# Altium footprint library Supernova DF13.PcbLib: 47 footprints (part 3 of 3)
Each footprint in its own frame and in the unit in brackets; x right, y up, seen from the top. Pads: shape width x height; smd on the part's side, far side on the other; paste and mask are expansions set on the pad; w line width, h text height; cw(c..) or ccw(c..) is an arc to the next point about the centre after c.
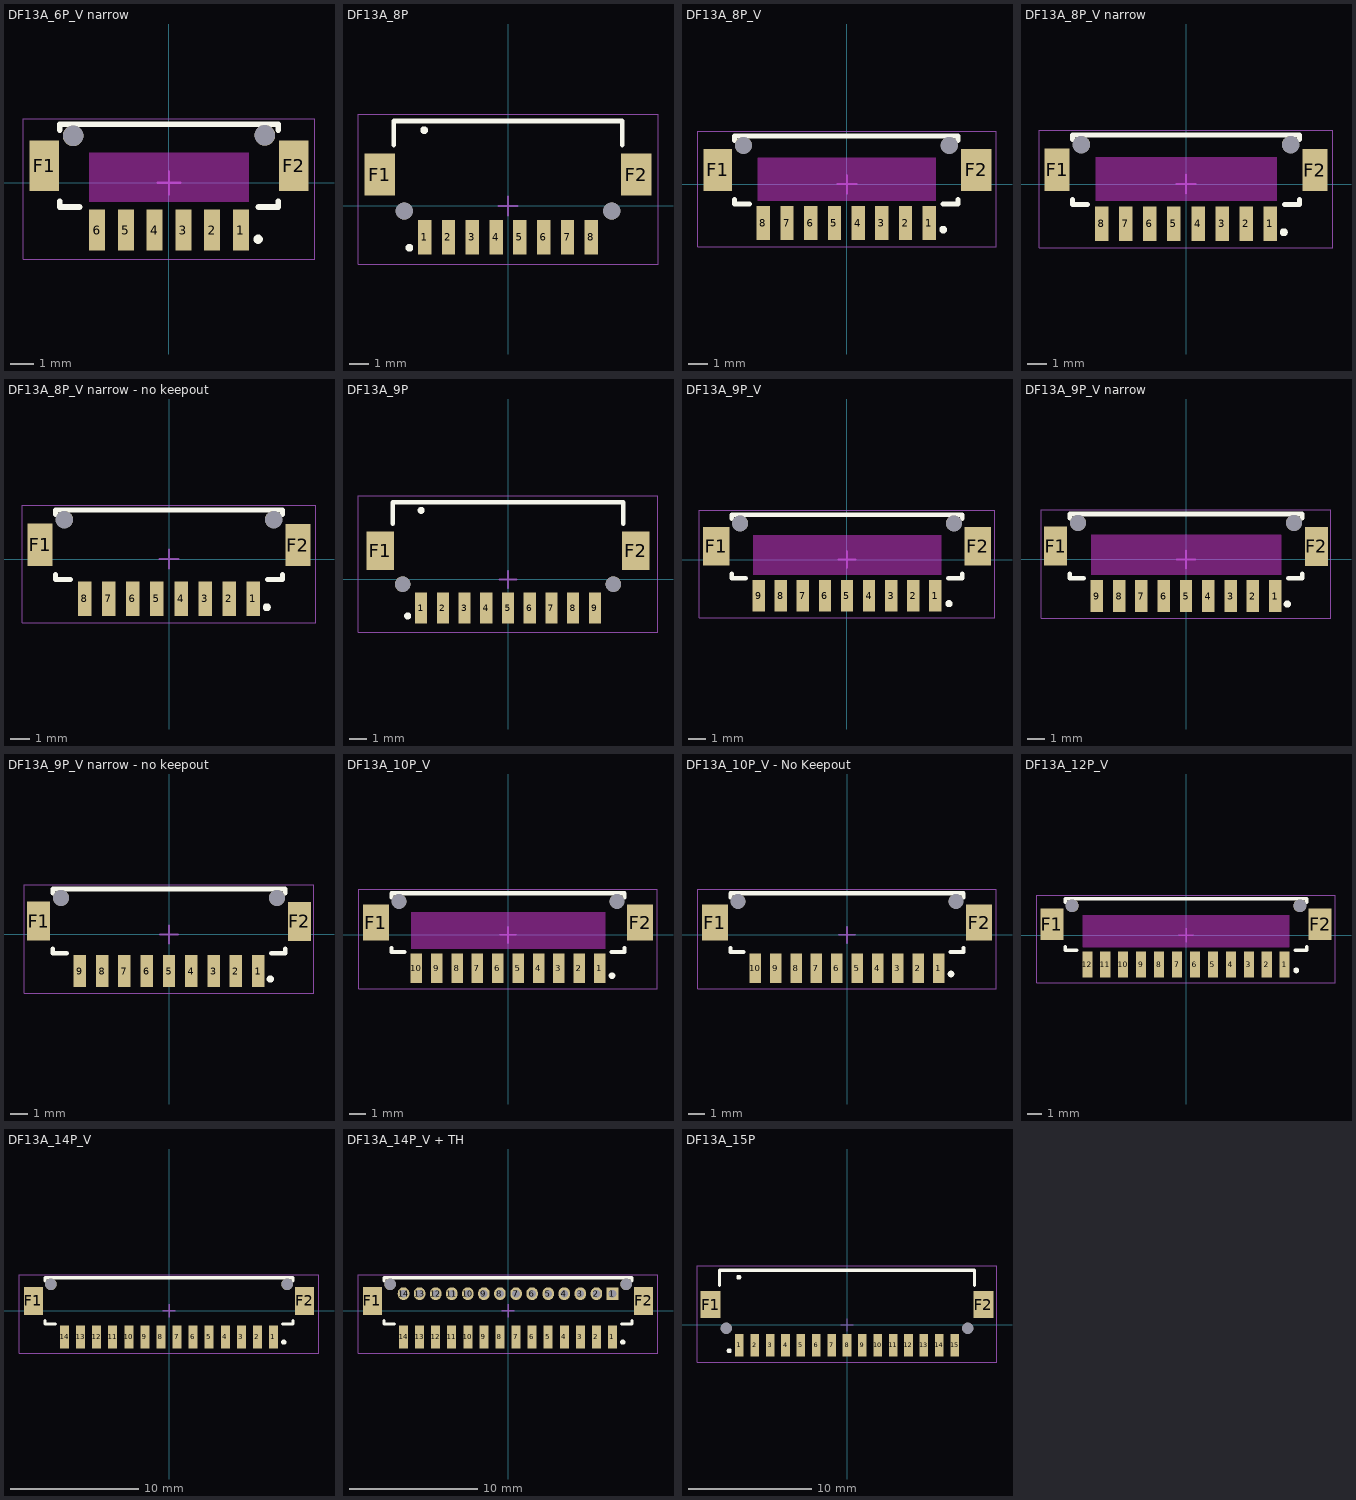
[diagram p2: the footprints below, top view; thin cyan lines are the x and y axes]

## DF13A_6P_V narrow [mm]
height 4
pads (10):
  rect 0.7x1.8 smd: 1(3.125,-2.06) 2(1.875,-2.06) 3(0.625,-2.06) 4(-0.625,-2.06) 5(-1.875,-2.06) 6(-3.125,-2.06)
  rect 1.3x2.2 smd mask+0: F1(-5.425,0.74) F2(5.425,0.74)
  round 0.9 hole 0.9 unplated paste+0 mask+0: ""(-4.17,2.04) ""(4.17,2.06)
Top Layer keep-out:
  rectangle: -3.475,-0.835 3.475,1.31
Top Overlay:
  circle w0.203: c3.878,-2.46 r0.102
  lines w0.254: -4.75,-0.81 -4.75,-1.06 -3.9,-1.06 ; -4.75,2.29 -4.75,2.54 4.75,2.54 4.75,2.29 ; 3.9,-1.06 4.75,-1.06 4.75,-0.81
Top Courtyard:
  lines w0.05: -6.35,-3.324 6.35,-3.324 6.35,2.772 -6.35,2.772 -6.35,-3.324
  lines w0.1: -0.5,0 0.5,0 ; 0,-0.5 0,0.5
3D body "DF13-6P-1.25V2.STEP": height 4.82, standoff -0.78, extent -6.075,-2.46 6.075,2.44

## DF13A_8P [mm]
height 4
pads (12):
  rect 0.7x1.8 smd: 1(-4.375,-1.65) 2(-3.125,-1.65) 3(-1.875,-1.65) 4(-0.625,-1.65) 5(0.625,-1.65) 6(1.875,-1.65) 7(3.125,-1.65) 8(4.375,-1.65)
  rect 1.6x2.2 smd: F1(-6.725,1.65) F2(6.725,1.65)
  round 0.9 hole 0.9 unplated paste+0 mask+0: ""(-5.445,-0.27) ""(5.445,-0.27)
Top Overlay:
  circle w0.203: c-4.4,3.978 r0.102
  circle w0.203: c-5.178,-2.2 r0.102
  lines w0.254: -6,3.2 -6,4.45 6,4.45 6,3.2
Top Courtyard:
  lines w0.05: -7.874,-3.048 7.874,-3.048 7.874,4.826 -7.874,4.826 -7.874,-3.048
  lines w0.1: -0.5,0 0.5,0 ; 0,-0.5 0,0.5
3D body "DF13-8P-1.25H.stp": height 3.58, standoff -0.82, extent -7.3,-2.15 7.35,4.35

## DF13A_8P_V [mm]
height 4
pads (12):
  rect 0.7x1.8 smd: 1(4.338,-2.05) 2(3.088,-2.05) 3(1.838,-2.05) 4(0.588,-2.05) 5(-0.662,-2.05) 6(-1.912,-2.05) 7(-3.162,-2.05) 8(-4.412,-2.05)
  rect 1.5x2.2 smd mask+0: F1(-6.812,0.75)
  rect 1.6x2.2 smd mask+0: F2(6.813,0.75)
  round 0.9 hole 0.9 unplated paste+0 mask+0: ""(-5.467,2.05) ""(5.393,2.05)
Top Layer keep-out:
  rectangle: -4.722,-0.874 4.688,1.396
Top Overlay:
  circle w0.203: c5.078,-2.4 r0.102
  lines w0.254: -5.937,-0.8 -5.937,-1.05 -5.137,-1.05 ; -5.937,2.3 -5.937,2.55 5.863,2.55 5.863,2.3 ; 5.063,-1.05 5.863,-1.05 5.863,-0.8
Top Courtyard:
  lines w0.05: -7.874,-3.302 7.874,-3.302 7.874,2.794 -7.874,2.794 -7.874,-3.302
  lines w0.1: -0.5,0 0.5,0 ; 0,-0.5 0,0.5
3D body "DF13-8P-1.25V.stp": height 4.79, standoff -0.81, extent -7.364,-2.45 7.286,2.45

## DF13A_8P_V narrow [mm]
height 4
pads (12):
  rect 0.7x1.8 smd: 1(4.375,-2.05) 2(3.125,-2.05) 3(1.875,-2.05) 4(0.625,-2.05) 5(-0.625,-2.05) 6(-1.875,-2.05) 7(-3.125,-2.05) 8(-4.375,-2.05)
  rect 1.3x2.2 smd mask+0: F1(-6.685,0.75) F2(6.685,0.73)
  round 0.9 hole 0.9 unplated paste+0 mask+0: ""(-5.43,2.05) ""(5.43,2.05)
Top Layer keep-out:
  rectangle: -4.684,-0.874 4.725,1.396
Top Overlay:
  circle w0.203: c5.078,-2.5 r0.102
  lines w0.254: -5.9,-0.8 -5.9,-1.05 -5.1,-1.05 ; -5.9,2.3 -5.9,2.55 5.9,2.55 5.9,2.3 ; 5.1,-1.05 5.9,-1.05 5.9,-0.8
Top Courtyard:
  lines w0.05: -7.62,-3.302 -7.62,2.794 7.62,2.794 7.62,-3.302 -7.62,-3.302
  lines w0.1: -0.5,0 0.5,0 ; 0,-0.5 0,0.5
3D body "DF13-8P-1.25V.stp": height 4.79, standoff -0.81, extent -7.326,-2.45 7.324,2.45

## DF13A_8P_V narrow - no keepout [mm]
height 4
pads (12):
  rect 0.7x1.8 smd: 1(4.375,-2.05) 2(3.125,-2.05) 3(1.875,-2.05) 4(0.625,-2.05) 5(-0.625,-2.05) 6(-1.875,-2.05) 7(-3.125,-2.05) 8(-4.375,-2.05)
  rect 1.3x2.2 smd mask+0: F1(-6.685,0.75) F2(6.685,0.73)
  round 0.9 hole 0.9 unplated paste+0 mask+0: ""(-5.43,2.05) ""(5.43,2.05)
Top Overlay:
  circle w0.203: c5.078,-2.5 r0.102
  lines w0.254: -5.9,-0.8 -5.9,-1.05 -5.1,-1.05 ; -5.9,2.3 -5.9,2.55 5.9,2.55 5.9,2.3 ; 5.1,-1.05 5.9,-1.05 5.9,-0.8
Top Courtyard:
  lines w0.05: -7.62,-3.302 7.62,-3.302 7.62,2.794 -7.62,2.794 -7.62,-3.302
  lines w0.1: -0.5,0 0.5,0 ; 0,-0.5 0,0.5
3D body "DF13-8P-1.25V.stp": height 4.79, standoff -0.81, extent -7.326,-2.45 7.324,2.45

## DF13A_9P [mm]
height 4
pads (13):
  rect 0.7x1.8 smd: 1(-5,-1.65) 2(-3.75,-1.65) 3(-2.5,-1.65) 4(-1.25,-1.65) 5(0,-1.65) 6(1.25,-1.65) 7(2.5,-1.65) 8(3.75,-1.65) 9(5,-1.65)
  rect 1.6x2.2 smd: F1(-7.35,1.65) F2(7.35,1.65)
  round 0.9 hole 0.9 unplated paste+0 mask+0: ""(-6.07,-0.27) ""(6.07,-0.27)
Top Overlay:
  circle w0.203: c-5.778,-2.1 r0.102
  circle w0.203: c-5,3.978 r0.102
  lines w0.254: -6.625,3.2 -6.625,4.45 6.625,4.45 6.625,3.2
Top Courtyard:
  lines w0.05: -8.636,-3.048 8.636,-3.048 8.636,4.826 -8.636,4.826 -8.636,-3.048
  lines w0.1: -0.5,0 0.5,0 ; 0,-0.5 0,0.5
3D body "DF13-9P-1.25H.stp": height 3.63, standoff -0.77, extent -7.975,-2.175 7.925,4.325

## DF13A_9P_V [mm]
height 4
pads (13):
  rect 0.7x1.8 smd: 1(5,-2.05) 2(3.75,-2.05) 3(2.5,-2.05) 4(1.25,-2.05) 5(0,-2.05) 6(-1.25,-2.05) 7(-2.5,-2.05) 8(-3.75,-2.05) 9(-5,-2.05)
  rect 1.5x2.2 smd mask+0: F1(-7.4,0.75) F2(7.4,0.75)
  round 0.9 hole 0.9 unplated paste+0 mask+0: ""(-6.055,2.05) ""(6.055,2.05)
Top Layer keep-out:
  rectangle: -5.325,-0.874 5.35,1.396
Top Overlay:
  circle w0.203: c5.778,-2.5 r0.102
  lines w0.254: -6.525,-0.8 -6.525,-1.05 -5.725,-1.05 ; -6.525,2.3 -6.525,2.55 6.525,2.55 6.525,2.3 ; 5.725,-1.05 6.525,-1.05 6.525,-0.8
Top Courtyard:
  lines w0.05: -8.382,-3.302 8.382,-3.302 8.382,2.794 -8.382,2.794 -8.382,-3.302
  lines w0.1: -0.5,0 0.5,0 ; 0,-0.5 0,0.5
3D body "DF13-9P-1.25V.stp": height 4.82, standoff -0.78, extent -7.95,-2.45 7.95,2.45

## DF13A_9P_V narrow [mm]
height 4
pads (13):
  rect 0.7x1.8 smd: 1(5,-2.05) 2(3.75,-2.05) 3(2.5,-2.05) 4(1.25,-2.05) 5(0,-2.05) 6(-1.25,-2.05) 7(-2.5,-2.05) 8(-3.75,-2.05) 9(-5,-2.05)
  rect 1.3x2.2 smd mask+0: F1(-7.31,0.75) F2(7.31,0.73)
  round 0.9 hole 0.9 unplated paste+0 mask+0: ""(-6.055,2.05) ""(6.055,2.05)
Top Layer keep-out:
  rectangle: -5.325,-0.874 5.35,1.396
Top Overlay:
  circle w0.203: c5.678,-2.5 r0.102
  lines w0.254: -6.525,-0.8 -6.525,-1.05 -5.725,-1.05 ; -6.525,2.3 -6.525,2.55 6.525,2.55 6.525,2.3 ; 5.725,-1.05 6.525,-1.05 6.525,-0.8
Top Courtyard:
  lines w0.05: -8.128,-3.302 -8.128,2.794 8.128,2.794 8.128,-3.302 -8.128,-3.302
  lines w0.1: -0.5,0 0.5,0 ; 0,-0.5 0,0.5
3D body "DF13-9P-1.25V.stp": height 4.82, standoff -0.78, extent -7.95,-2.45 7.95,2.45

## DF13A_9P_V narrow - no keepout [mm]
height 4
pads (13):
  rect 0.7x1.8 smd: 1(5,-2.05) 2(3.75,-2.05) 3(2.5,-2.05) 4(1.25,-2.05) 5(0,-2.05) 6(-1.25,-2.05) 7(-2.5,-2.05) 8(-3.75,-2.05) 9(-5,-2.05)
  rect 1.3x2.2 smd mask+0: F1(-7.31,0.75) F2(7.31,0.73)
  round 0.9 hole 0.9 unplated paste+0 mask+0: ""(-6.055,2.05) ""(6.055,2.05)
Top Overlay:
  circle w0.203: c5.678,-2.5 r0.102
  lines w0.254: -6.525,-0.8 -6.525,-1.05 -5.725,-1.05 ; -6.525,2.3 -6.525,2.55 6.525,2.55 6.525,2.3 ; 5.725,-1.05 6.525,-1.05 6.525,-0.8
Top Courtyard:
  lines w0.05: -8.128,-3.302 8.128,-3.302 8.128,2.794 -8.128,2.794 -8.128,-3.302
  lines w0.1: -0.5,0 0.5,0 ; 0,-0.5 0,0.5
3D body "DF13-9P-1.25V.stp": height 4.82, standoff -0.78, extent -7.95,-2.45 7.95,2.45

## DF13A_10P_V [mm]
height 4
pads (14):
  rect 0.7x1.8 smd: 1(5.625,-2.05) 2(4.375,-2.05) 3(3.125,-2.05) 4(1.875,-2.05) 5(0.625,-2.05) 6(-0.625,-2.05) 7(-1.875,-2.05) 8(-3.125,-2.05) 9(-4.375,-2.05) 10(-5.625,-2.05)
  rect 1.6x2.2 smd mask+0: F1(-8.1,0.75) F2(8.1,0.75)
  round 0.9 hole 0.9 unplated paste+0 mask+0: ""(-6.68,2.05) ""(6.68,2.05)
Top Layer keep-out:
  rectangle: -5.949,-0.874 5.975,1.396
Top Overlay:
  circle w0.203: c6.378,-2.5 r0.102
  lines w0.254: -7.15,-0.8 -7.15,-1.05 -6.35,-1.05 ; -7.15,2.3 -7.15,2.55 ; -7.143,2.55 7.15,2.55 7.15,2.3 ; 6.35,-1.05 7.15,-1.05 7.15,-0.8
Top Courtyard:
  lines w0.05: -9.144,-3.302 -9.144,2.794 9.144,2.794 9.144,-3.302 -9.144,-3.302
  lines w0.1: -0.5,0 0.5,0 ; 0,-0.5 0,0.5
3D body "DF13-10P-1.25V.stp": height 4.81, standoff -0.79, extent -8.575,-2.436 8.575,2.464
3D body: height 1.27, standoff 0, extent -5.791,2.134 -5.791,2.134

## DF13A_10P_V - No Keepout [mm]
height 4
pads (14):
  rect 0.7x1.8 smd: 1(5.625,-2.05) 2(4.375,-2.05) 3(3.125,-2.05) 4(1.875,-2.05) 5(0.625,-2.05) 6(-0.625,-2.05) 7(-1.875,-2.05) 8(-3.125,-2.05) 9(-4.375,-2.05) 10(-5.625,-2.05)
  rect 1.6x2.2 smd mask+0: F1(-8.1,0.75) F2(8.1,0.75)
  round 0.9 hole 0.9 unplated paste+0 mask+0: ""(-6.68,2.05) ""(6.68,2.05)
Top Overlay:
  circle w0.203: c6.378,-2.4 r0.102
  lines w0.254: -7.15,-0.8 -7.15,-1.05 -6.35,-1.05 ; -7.15,2.3 -7.15,2.55 ; -7.143,2.55 7.15,2.55 7.15,2.3 ; 6.35,-1.05 7.15,-1.05 7.15,-0.8
Top Courtyard:
  lines w0.05: -9.144,-3.302 -9.144,2.794 9.144,2.794 9.144,-3.302 -9.144,-3.302
  lines w0.1: -0.5,0 0.5,0 ; 0,-0.5 0,0.5
3D body: height 1.27, standoff 0, extent -5.791,2.134 -5.791,2.134
3D body "DF13-10P-1.25V.stp": height 4.81, standoff -0.79, extent -8.575,-2.436 8.575,2.464

## DF13A_12P_V [mm]
height 4
pads (16):
  rect 0.7x1.8 smd: 1(6.875,-2.05) 2(5.625,-2.05) 3(4.375,-2.05) 4(3.125,-2.05) 5(1.875,-2.05) 6(0.625,-2.05) 7(-0.625,-2.05) 8(-1.875,-2.05) 9(-3.125,-2.05) 10(-4.375,-2.05) 11(-5.625,-2.05) 12(-6.875,-2.05)
  rect 1.6x2.2 smd mask+0: F1(-9.35,0.75) F2(9.35,0.75)
  round 0.9 hole 0.9 unplated paste+0 mask+0: ""(-7.93,2.05) ""(7.93,2.05)
Top Layer keep-out:
  rectangle: -7.225,-0.874 7.225,1.396
Top Overlay:
  circle w0.203: c7.678,-2.45 r0.102
  lines w0.254: -8.4,-0.8 -8.4,-1.05 -7.6,-1.05 ; -8.4,2.3 -8.4,2.55 8.4,2.55 8.4,2.3 ; 7.6,-1.05 8.4,-1.05 8.4,-0.8
Top Courtyard:
  lines w0.05: -10.414,-3.314 10.414,-3.314 10.414,2.782 -10.414,2.782 -10.414,-3.314
  lines w0.1: -0.5,0 0.5,0 ; 0,-0.5 0,0.5
3D body "DF13-12P-1.25V.stp": height 4.77, standoff -0.83, extent -9.825,-2.45 9.825,2.45

## DF13A_14P_V [mm]
height 4
pads (18):
  rect 0.7x1.8 smd: 1(8.125,-2.05) 2(6.875,-2.05) 3(5.625,-2.05) 4(4.375,-2.05) 5(3.125,-2.05) 6(1.875,-2.05) 7(0.625,-2.05) 8(-0.625,-2.05) 9(-1.875,-2.05) 10(-3.125,-2.05) 11(-4.375,-2.05) 12(-5.625,-2.05) 13(-6.875,-2.05) 14(-8.125,-2.05)
  rect 1.499x2.2 smd mask+0: F1(-10.543,0.75) F2(10.543,0.75)
  round 0.9 hole 0.9 unplated paste+0 mask+0: ""(-9.18,2.05) ""(9.18,2.05)
Top Overlay:
  circle w0.203: c8.928,-2.45 r0.102
  lines w0.254: -9.65,-0.8 -9.65,-1.05 -8.85,-1.05 ; -9.65,2.3 -9.65,2.55 9.65,2.55 9.65,2.3 ; 8.85,-1.05 9.65,-1.05 9.65,-0.8
Top Courtyard:
  lines w0.05: -11.664,-3.314 -11.664,2.782 11.664,2.782 11.664,-3.314 -11.664,-3.314
  lines w0.1: -0.5,0 0.5,0 ; 0,-0.5 0,0.5
3D body "WNCW-1600321.stp": height 4.79, standoff -0.01, extent -11.075,-2.45 11.075,2.45

## DF13A_14P_V + TH [mm]
height 4
pads (32):
  rect 0.9x1 hole 0.6: 1(8.125,1.31)
  rect 0.7x1.8 smd: 1(8.125,-2.05) 2(6.875,-2.05) 3(5.625,-2.05) 4(4.375,-2.05) 5(3.125,-2.05) 6(1.875,-2.05) 7(0.625,-2.05) 8(-0.625,-2.05) 9(-1.875,-2.05) 10(-3.125,-2.05) 11(-4.375,-2.05) 12(-5.625,-2.05) 13(-6.875,-2.05) 14(-8.125,-2.05)
  oval 0.9x1 hole 0.6: 2(6.875,1.31) 3(5.625,1.31) 4(4.375,1.31) 5(3.125,1.31) 6(1.875,1.31) 7(0.625,1.31) 8(-0.625,1.31) 9(-1.875,1.31) 10(-3.125,1.31) 11(-4.375,1.31) 12(-5.625,1.31) 13(-6.875,1.31) 14(-8.125,1.31)
  rect 1.499x2.2 smd mask+0: F1(-10.543,0.75) F2(10.543,0.75)
  round 0.9 hole 0.9 unplated paste+0 mask+0: ""(-9.17,2.05) ""(9.18,2.05)
Top Overlay:
  circle w0.203: c8.928,-2.45 r0.102
  lines w0.254: -9.65,-0.8 -9.65,-1.05 -8.85,-1.05 ; -9.65,2.3 -9.65,2.55 9.65,2.55 9.65,2.3 ; 8.85,-1.05 9.65,-1.05 9.65,-0.8
Top Courtyard:
  lines w0.05: -11.664,-3.314 -11.664,2.782 11.664,2.782 11.664,-3.314 -11.664,-3.314
  lines w0.1: -0.5,0 0.5,0 ; 0,-0.5 0,0.5
3D body "WNCW-1600321.stp": height 4.79, standoff -0.01, extent -11.075,-2.45 11.075,2.45

## DF13A_15P [mm]
height 4
pads (19):
  rect 0.7x1.8 smd: 1(-8.75,-1.65) 2(-7.5,-1.65) 3(-6.25,-1.65) 4(-5,-1.65) 5(-3.75,-1.65) 6(-2.5,-1.65) 7(-1.25,-1.65) 8(0,-1.65) 9(1.25,-1.65) 10(2.5,-1.65) 11(3.75,-1.65) 12(5,-1.65) 13(6.25,-1.65) 14(7.5,-1.65) 15(8.75,-1.65)
  rect 1.6x2.2 smd: F1(-11.1,1.65) F2(11.1,1.65)
  round 0.9 hole 0.9 unplated paste+0 mask+0: ""(-9.82,-0.27) ""(9.82,-0.27)
Top Overlay:
  circle w0.203: c-8.8,3.878 r0.102
  circle w0.203: c-9.578,-2.1 r0.102
  lines w0.254: -10.375,3.2 -10.375,4.45 10.375,4.45 10.375,3.2
Top Courtyard:
  lines w0.05: -12.192,-3.048 12.192,-3.048 12.192,4.826 -12.192,4.826 -12.192,-3.048
  lines w0.1: -0.5,0 0.5,0 ; 0,-0.5 0,0.5
3D body "DF13-15P-1.25H.stp": height 3.63, standoff -0.77, extent -11.7,-2.15 11.7,4.35